# Altium schematic symbol library LibraryJ30.SchLib: 27 symbols
Pins are listed as number, name and electrical type; pins without a type are passive.

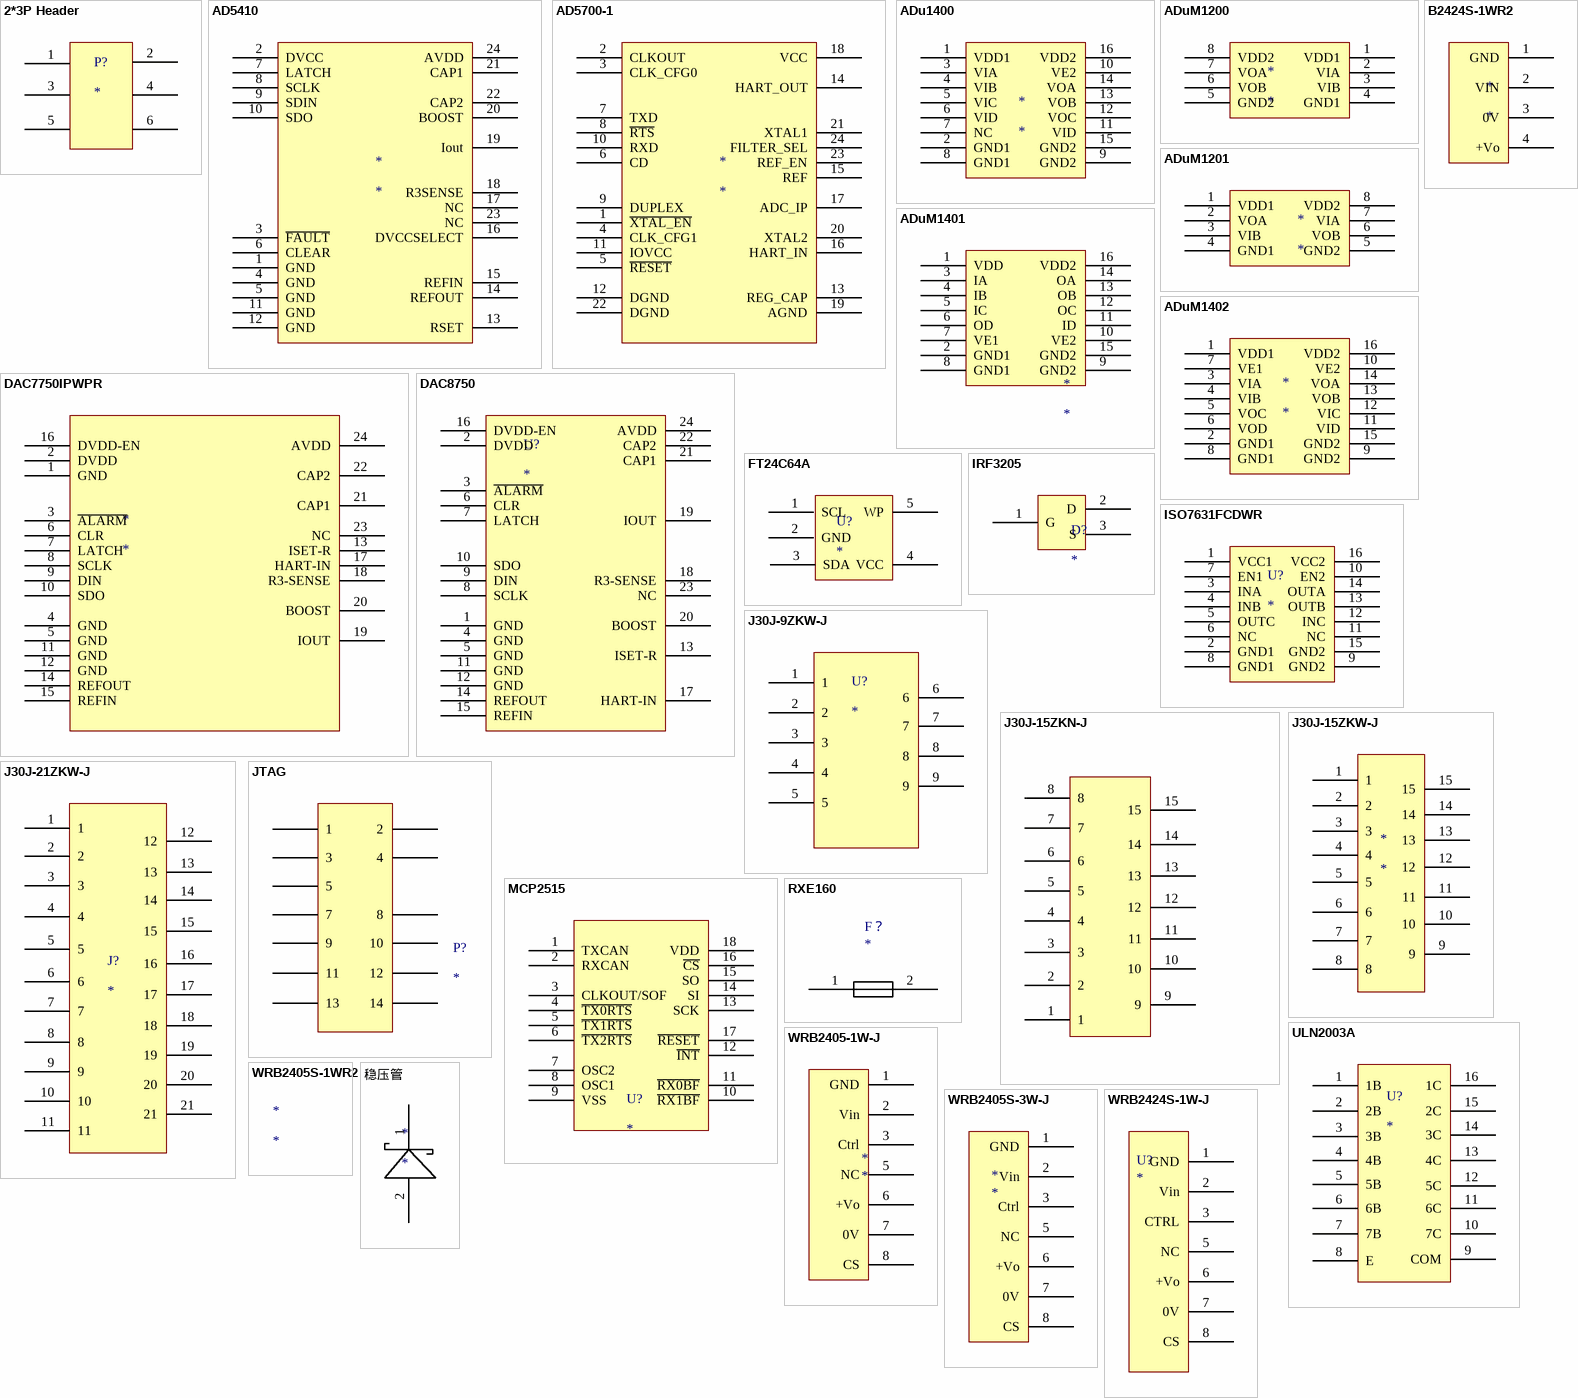
[diagram p0: symbols 2*3P Header to 稳压管]

## 2*3P Header
designator P?
牛角插座
pins: 1, 2, 3, 4, 5, 6

## AD5410
designator *
单通道、12bitDAC
pins: 1 GND, 2 DVCC, 3 ~{FAULT}, 4 GND, 5 GND, 6 CLEAR, 7 LATCH, 8 SCLK, 9 SDIN, 10 SDO, 11 GND, 12 GND, 13 RSET, 14 REFOUT, 15 REFIN, 16 DVCCSELECT, 17 NC, 18 R3SENSE, 19 Iout, 20 BOOST, 21 CAP1, 22 CAP2, 23 NC, 24 AVDD

## AD5700-1
designator *
pins: 1 ~{XTAL_EN}, 2 CLKOUT, 3 CLK_CFG0, 4 CLK_CFG1, 5 ~{RESET}, 6 CD, 7 TXD, 8 ~{RTS}, 9 DUPLEX, 10 RXD, 11 IOVCC, 12 DGND, 13 REG_CAP, 14 HART_OUT, 15 REF, 16 HART_IN, 17 ADC_IP, 18 VCC, 19 AGND, 20 XTAL2, 21 XTAL1, 22 DGND, 23 REF_EN, 24 FILTER_SEL

## ADu1400
designator *
pins: 1 VDD1, 2 GND1, 3 VIA, 4 VIB, 5 VIC, 6 VID, 7 NC, 8 GND1, 9 GND2, 10 VE2, 11 VID, 12 VOC, 13 VOB, 14 VOA, 15 GND2, 16 VDD2

## ADuM1200
designator *
pins: 1 VDD1, 2 VIA, 3 VIB, 4 GND1, 5 GND2, 6 VOB, 7 VOA, 8 VDD2

## ADuM1201
designator *
pins: 1 VDD1, 2 VOA, 3 VIB, 4 GND1, 5 GND2, 6 VOB, 7 VIA, 8 VDD2

## ADuM1401
designator *
pins: 1 VDD, 2 GND1, 3 IA, 4 IB, 5 IC, 6 OD, 7 VE1, 8 GND1, 9 GND2, 10 VE2, 11 ID, 12 OC, 13 OB, 14 OA, 15 GND2, 16 VDD2

## ADuM1402
designator *
pins: 1 VDD1, 2 GND1, 3 VIA, 4 VIB, 5 VOC, 6 VOD, 7 VE1, 8 GND1, 9 GND2, 10 VE2, 11 VID, 12 VIC, 13 VOB, 14 VOA, 15 GND2, 16 VDD2

## B2424S-1WR2
designator *
pins: 1 GND, 2 VIN, 3 0V, 4 +Vo

## DAC7750IPWPR
designator *
单通道、12bit、带缓冲电流输出型DAC，TSSOP
pins: 1 GND, 2 DVDD, 3 ~{ALARM}, 4 GND, 5 GND, 6 CLR, 7 LATCH, 8 SCLK, 9 DIN, 10 SDO, 11 GND, 12 GND, 13 ISET-R, 14 REFOUT, 15 REFIN, 16 DVDD-EN, 17 HART-IN, 18 R3-SENSE, 19 IOUT, 20 BOOST, 21 CAP1, 22 CAP2, 23 NC, 24 AVDD

## DAC8750
designator U?
单通道，16bit，电流输出型DAC
pins: 1 GND, 2 DVDD, 3 ~{ALARM}, 4 GND, 5 GND, 6 CLR, 7 LATCH, 8 SCLK, 9 DIN, 10 SDO, 11 GND, 12 GND, 13 ISET-R, 14 REFOUT, 15 REFIN, 16 DVDD-EN, 17 HART-IN, 18 R3-SENSE, 19 IOUT, 20 BOOST, 21 CAP1, 22 CAP2, 23 NC, 24 AVDD

## FT24C64A
designator U?
TO-252 EEPROM
pins: 1 SCL, 2 GND, 3 SDA, 4 VCC, 5 WP

## IRF3205
designator D?
N MOSFET
pins: 1 G, 2 D, 3 S

## ISO7631FCDWR
designator U?
低功耗三通道和四通道数字隔离器 SOIC16
pins: 1 VCC1, 2 GND1, 3 INA, 4 INB, 5 OUTC, 6 NC, 7 EN1, 8 GND1, 9 GND2, 10 EN2, 11 NC, 12 INC, 13 OUTB, 14 OUTA, 15 GND2, 16 VCC2

## J30J-9ZKW-J
designator U?
J30J-9弯插
pins: 1, 2, 3, 4, 5, 6, 7, 8, 9

## J30J-15ZKN-J
designator J?
双排直插J30J，15个引脚
pins: 1, 2, 3, 4, 5, 6, 7, 8, 9, 10, 11, 12, 13, 14, 15

## J30J-15ZKW-J
designator *
pins: 1, 2, 3, 4, 5, 6, 7, 8, 9, 10, 11, 12, 13, 14, 15

## J30J-21ZKW-J
designator J?
J30J-21 弯头插座
pins: 1, 2, 3, 4, 5, 6, 7, 8, 9, 10, 11, 12, 13, 14, 15, 16, 17, 18, 19, 20, 21

## JTAG
designator P?
pins: 1, 2, 3, 4, 5, 7, 8, 9, 10, 11, 12, 13, 14

## MCP2515
designator U?
独立CAN控制器
pins: 1 TXCAN, 2 RXCAN, 3 CLKOUT/SOF, 4 ~{TX0RTS}, 5 ~{TX1}~{RTS}, 6 ~{TX2RTS}, 7 OSC2, 8 OSC1, 9 VSS, 10 ~{RX1BF}, 11 ~{RX0BF}, 12 ~{INT}, 13 SCK, 14 SI, 15 SO, 16 ~{CS}, 17 ~{RESET}, 18 VDD

## RXE160
designator F？
pins: 1, 2

## ULN2003A
designator U?
ULN2003A
pins: 1 1B, 2 2B, 3 3B, 4 4B, 5 5B, 6 6B, 7 7B, 8 E, 9 COM, 10 7C, 11 6C, 12 5C, 13 4C, 14 3C, 15 2C, 16 1C

## WRB2405-1W-J
designator *
pins: 1 GND, 2 Vin, 3 Ctrl, 5 NC, 6 +Vo, 7 0V, 8 CS

## WRB2405S-1WR2
designator *

## WRB2405S-3W-J
designator *
pins: 1 GND, 2 Vin, 3 Ctrl, 5 NC, 6 +Vo, 7 0V, 8 CS

## WRB2424S-1W-J
designator U?
pins: 1 GND, 2 Vin, 3 CTRL, 5 NC, 6 +Vo, 7 0V, 8 CS

## 稳压管
designator *
pins: 1, 2